# Altium footprint library TO220-123 - Jacketed_1.PcbLib: 1 footprints
Each footprint in its own frame and in the unit in brackets; x right, y up, seen from the top. Pads: shape width x height; smd on the part's side, far side on the other; paste and mask are expansions set on the pad; w line width, h text height; cw(c..) or ccw(c..) is an arc to the next point about the centre after c.
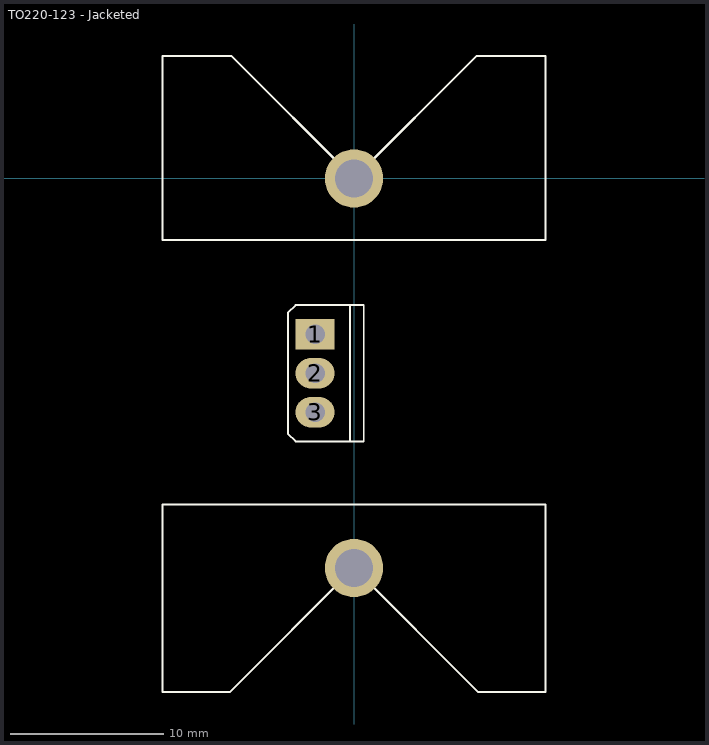
[diagram p0: the footprint, top view; thin cyan lines are the x and y axes]

## TO220-123 - Jacketed [mm]
pads (5):
  rect 2.54x2 hole 1.27: 1(-2.54,-10.16)
  oval 2.54x2 hole 1.27: 2(-2.54,-12.7) 3(-2.54,-15.24)
  round 3.81 hole 2.5 unplated: ""(0,-25.4)
  round 3.81 hole 2.5: ""(0,0)
Top Overlay:
  lines w0.127: -4.318,-16.51 -4.318,-16.637 ; -4.318,-8.89 -4.318,-8.763 ; -0.635,-17.145 0.635,-17.145 0.635,-8.255 -0.254,-8.255 ; -4.318,-16.637 -4.318,-8.763 ; -4.318,-16.637 -3.81,-17.145 ; -4.318,-16.637 -3.81,-17.145 ; -4.318,-8.763 -3.81,-8.255 ; -4.318,-8.763 -3.81,-8.255 ; -3.81,-17.145 -0.254,-17.145 -0.254,-16.51 -0.254,-8.89 -0.254,-8.255 ; -3.81,-8.255 -0.254,-8.255 ; 8,8 0,0 -8,8 -12.5,8 -12.5,-4 12.5,-4 12.5,8 ; 8,8 12.5,8 ; 8,8 12.5,8 ; -12.5,-33.5 -8.1,-33.5 0,-25.4 8.1,-33.5 12.5,-33.5 12.5,-21.25 -12.5,-21.25 -12.5,-33.5
3D body: height 0.25, standoff 0, extent -3.5,-8.25 -3.5,-8.25
3D body: height 5, standoff 0, extent -12.5,-33.5 12.5,-21.25
3D body: height 5, standoff 0, extent -12.5,-4 12.5,8